# Altium schematic symbol library LED.SchLib: 1 symbol
Pins are listed as number, name and electrical type; pins without a type are passive.

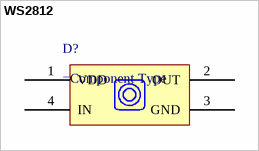
[diagram p0: symbol WS2812]

## WS2812
designator D?
pins: 1 VDD, 2 OUT, 3 GND, 4 IN